# Altium footprint library 2 Pin Solder Pads.PcbLib: 1 footprints
Each footprint in its own frame and in the unit in brackets; x right, y up, seen from the top. Pads: shape width x height; smd on the part's side, far side on the other; paste and mask are expansions set on the pad; w line width, h text height; cw(c..) or ccw(c..) is an arc to the next point about the centre after c.
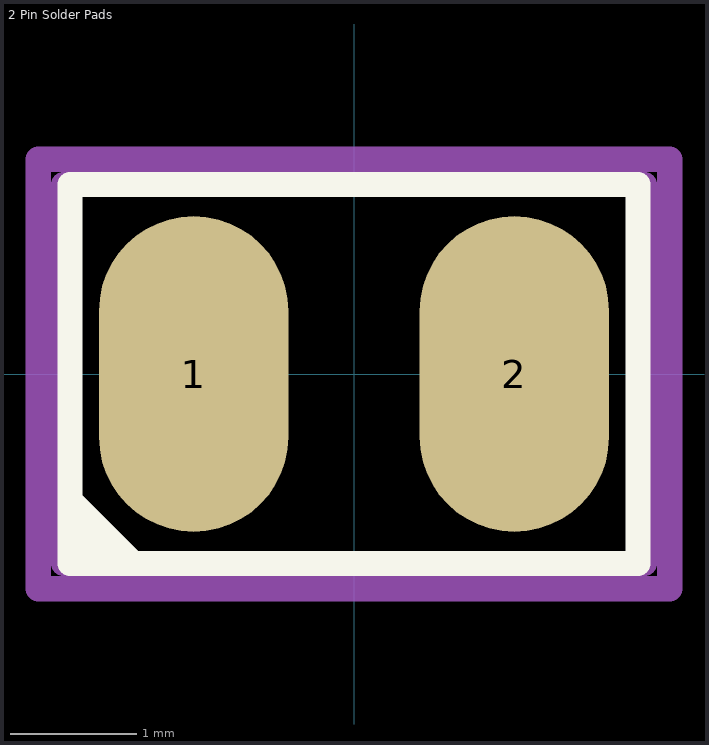
[diagram p0: the footprint, top view; thin cyan lines are the x and y axes]

## 2 Pin Solder Pads [mm]
pads (2):
  oval 1.5x2.5 smd: 1(-1.27,0) 2(1.27,0)
Top Overlay:
  region: -2.25,-1.5 -2.25,-1 -1.75,-1.5
  lines w0.2: -2.25,-1 -1.75,-1.5 ; -2.25,-1.5 2.25,-1.5 2.25,1.5 -2.25,1.5 -2.25,-1.5
Mechanical 1:
  lines w0.2: -2.3,-1.5 2.3,-1.5 2.3,1.5 -2.3,1.5 -2.3,-1.5
Mechanical 15:
  lines w0.2: -2.5,-1.7 2.5,-1.7 2.5,1.7 -2.5,1.7 -2.5,-1.7